# Altium schematic symbol library Schlib_JAE Electronics.SchLib: 2 symbols
Pins are listed as number, name and electrical type; pins without a type are passive.

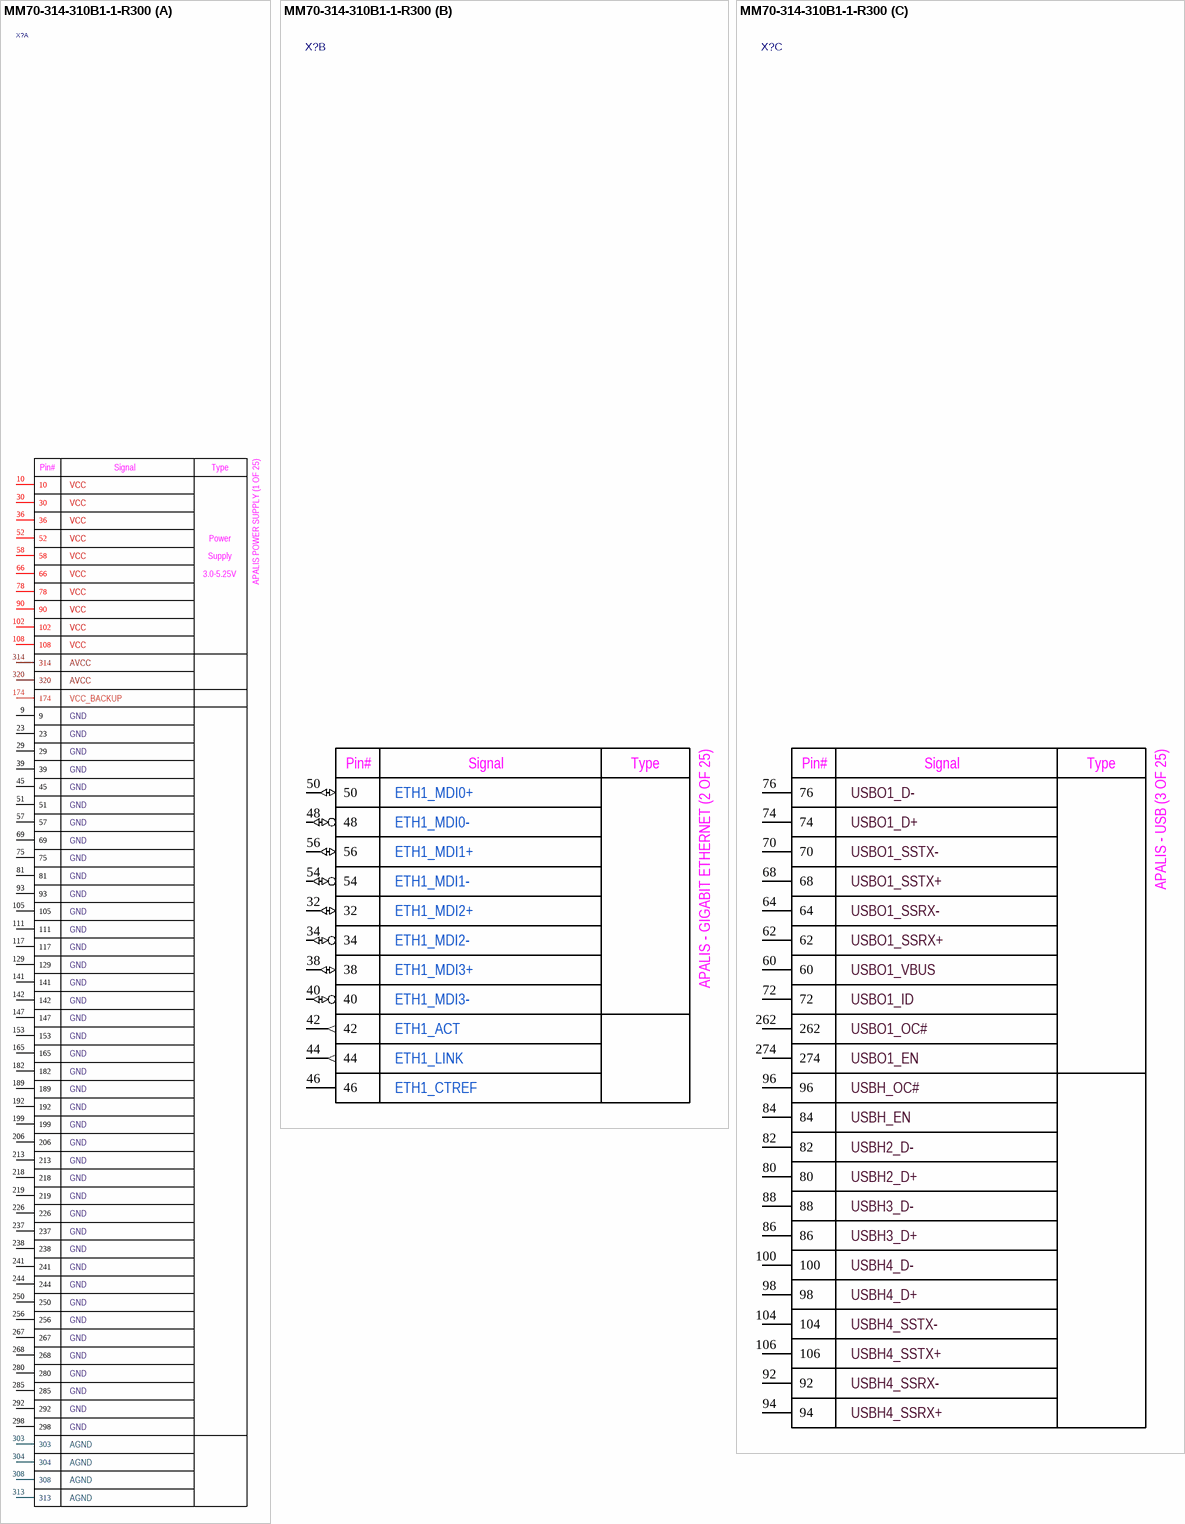
[diagram p0: symbol MM70-314-310B1-1-R300]

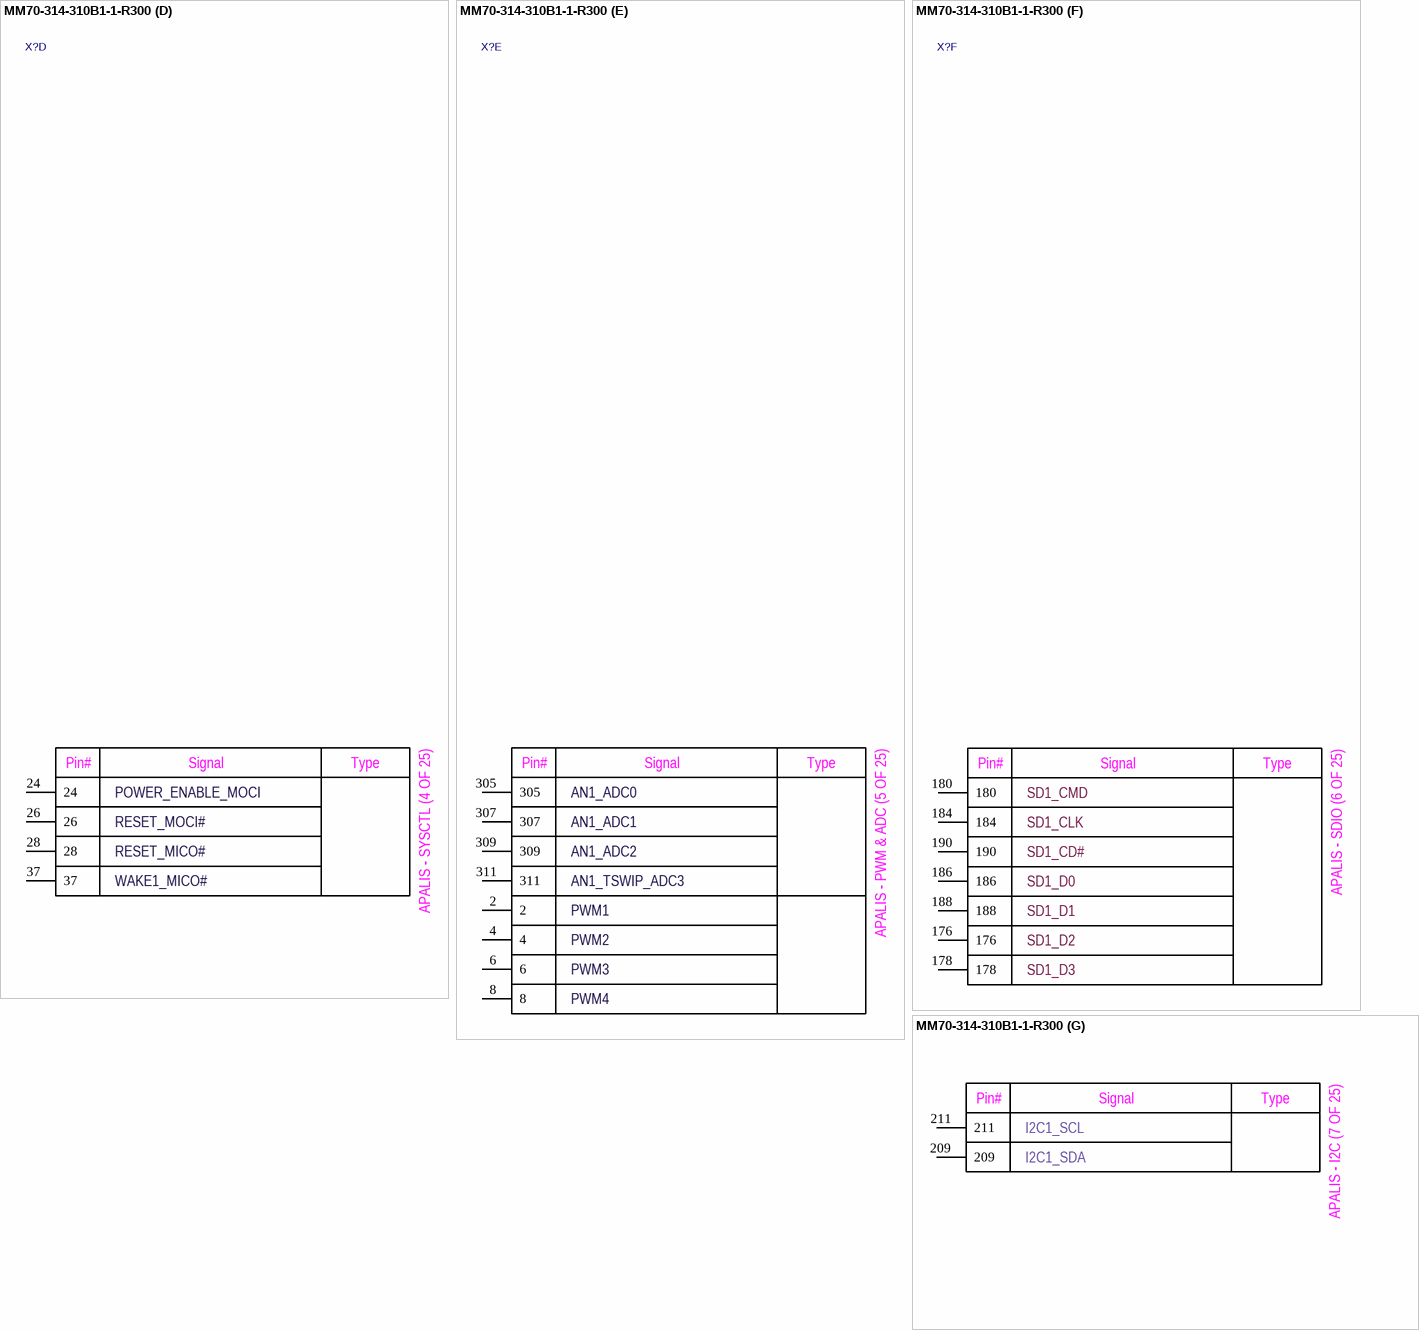
[diagram p1: symbol MM70-314-310B1-1-R300]

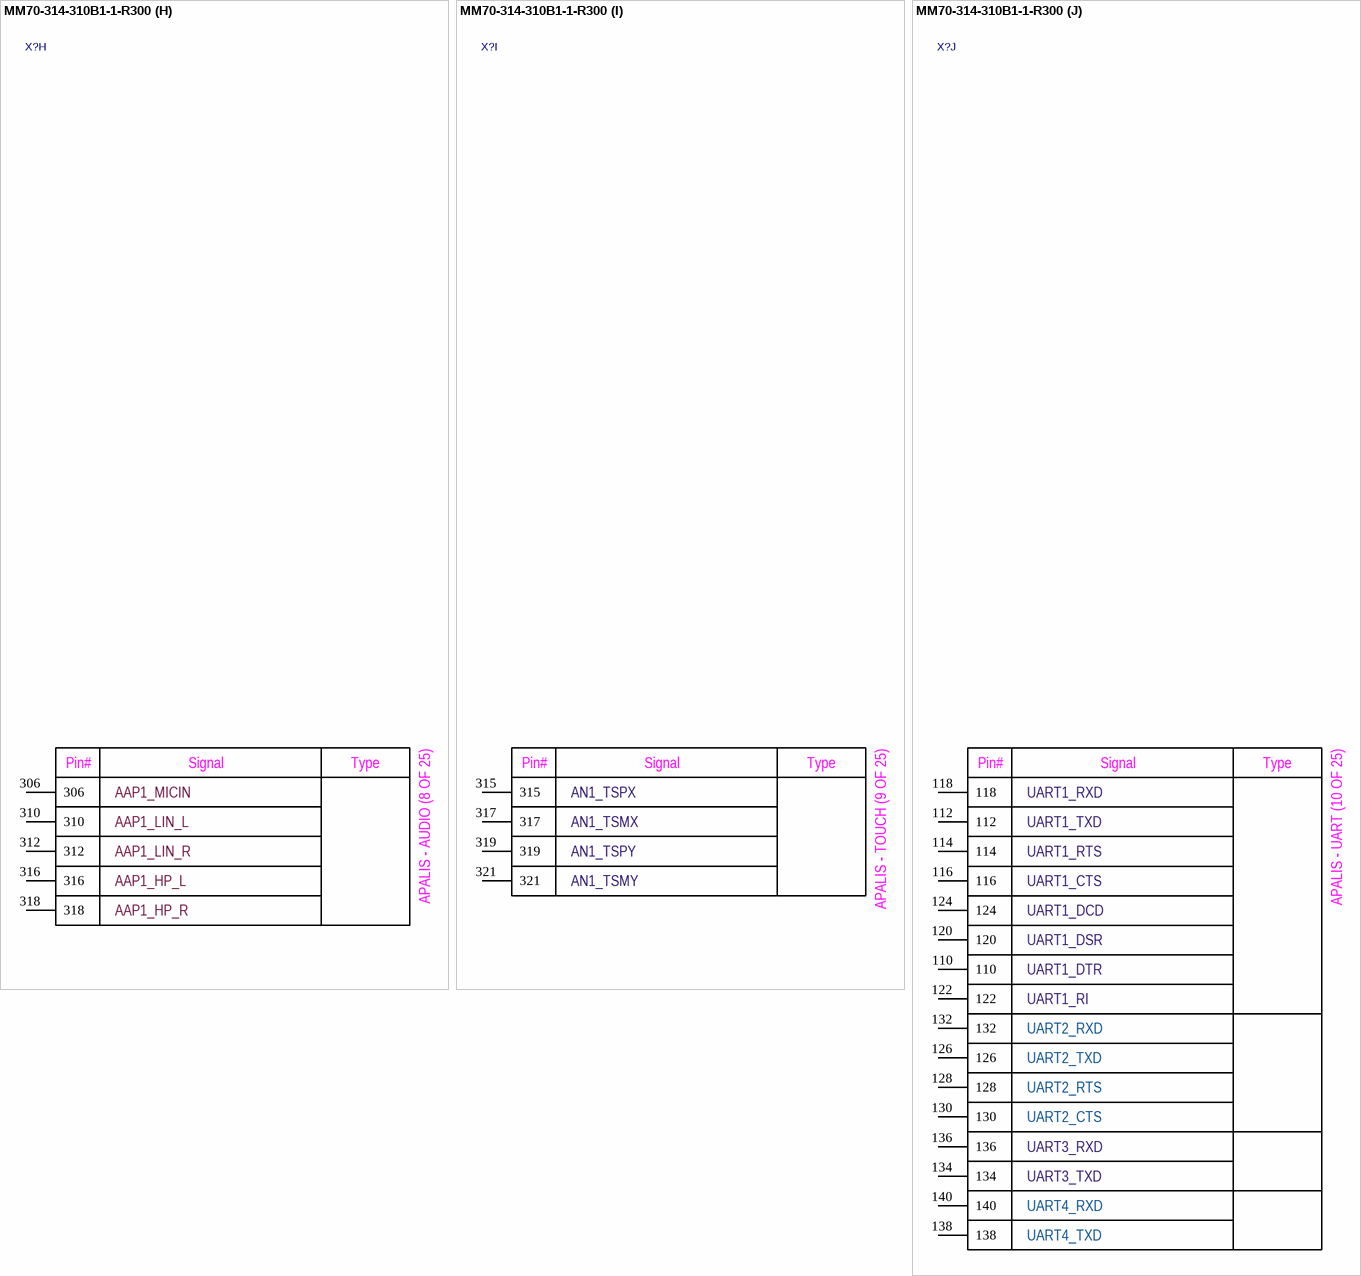
[diagram p2: symbol MM70-314-310B1-1-R300]

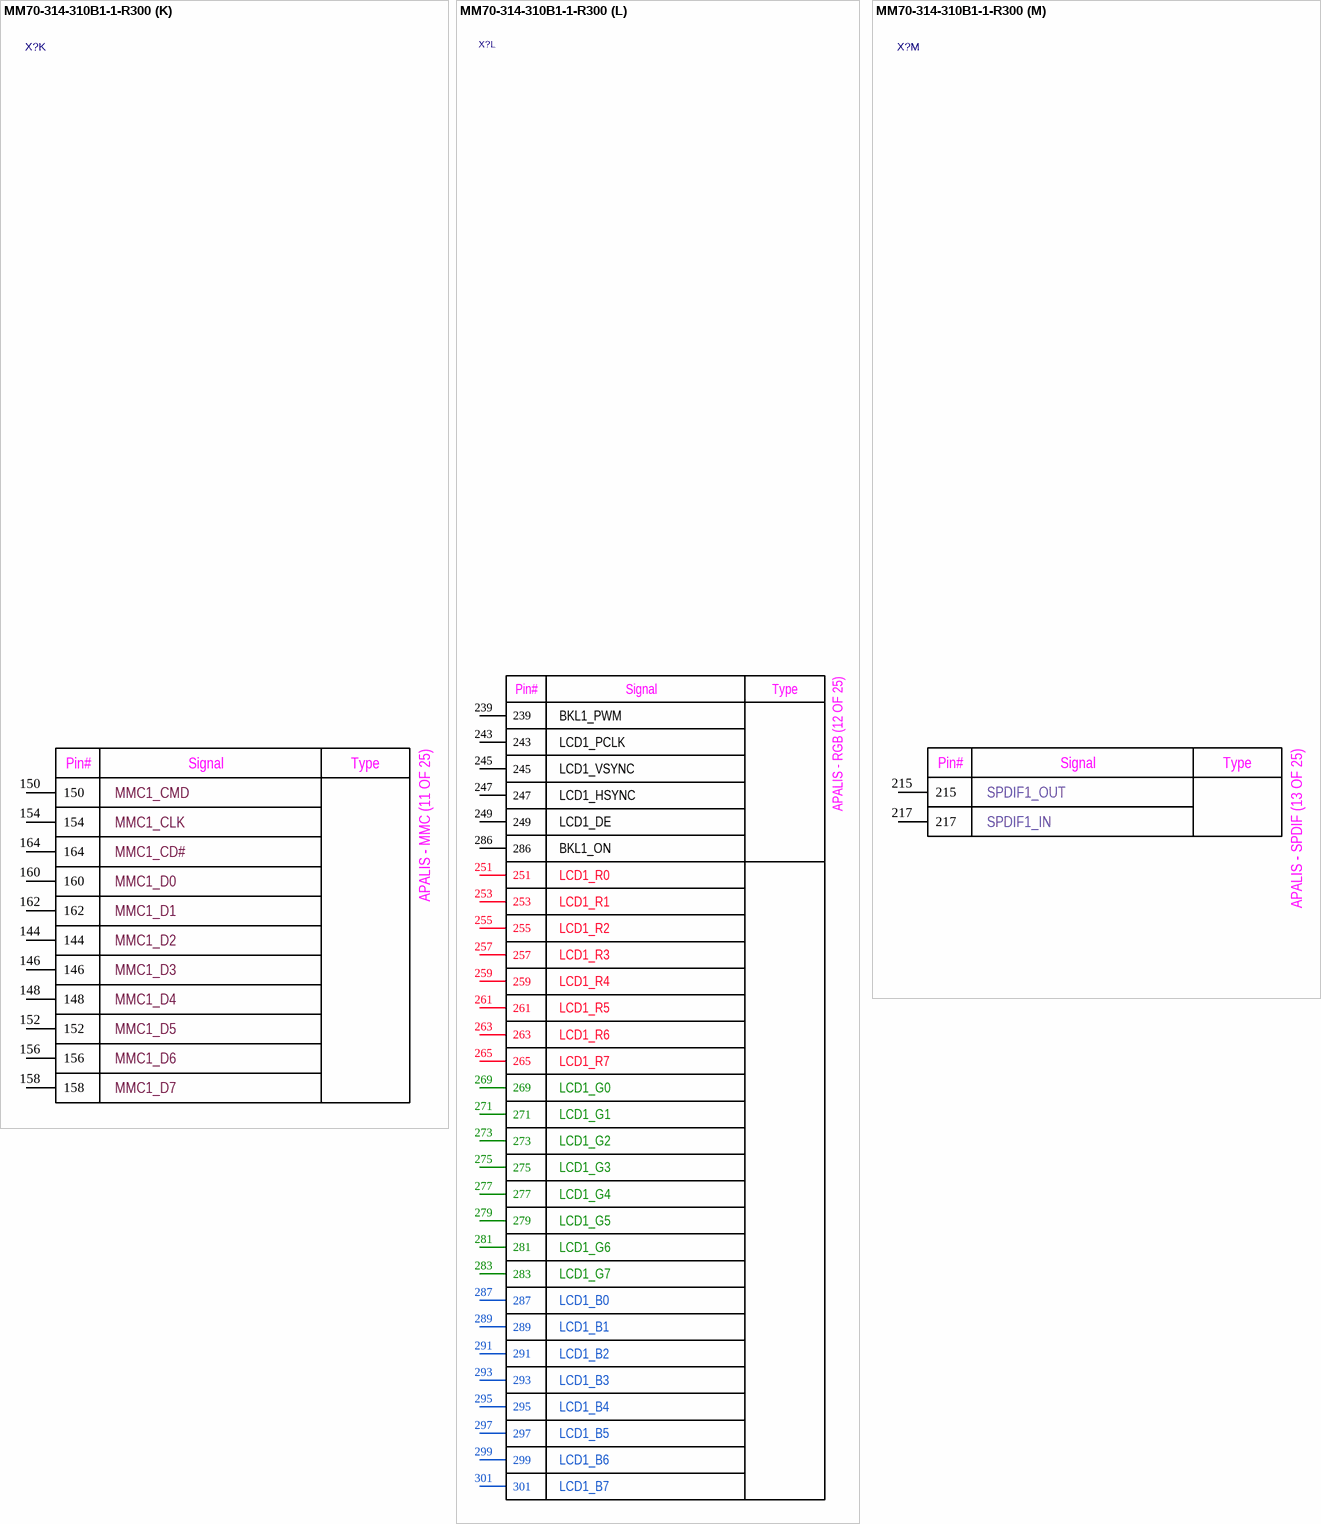
[diagram p3: symbol MM70-314-310B1-1-R300]

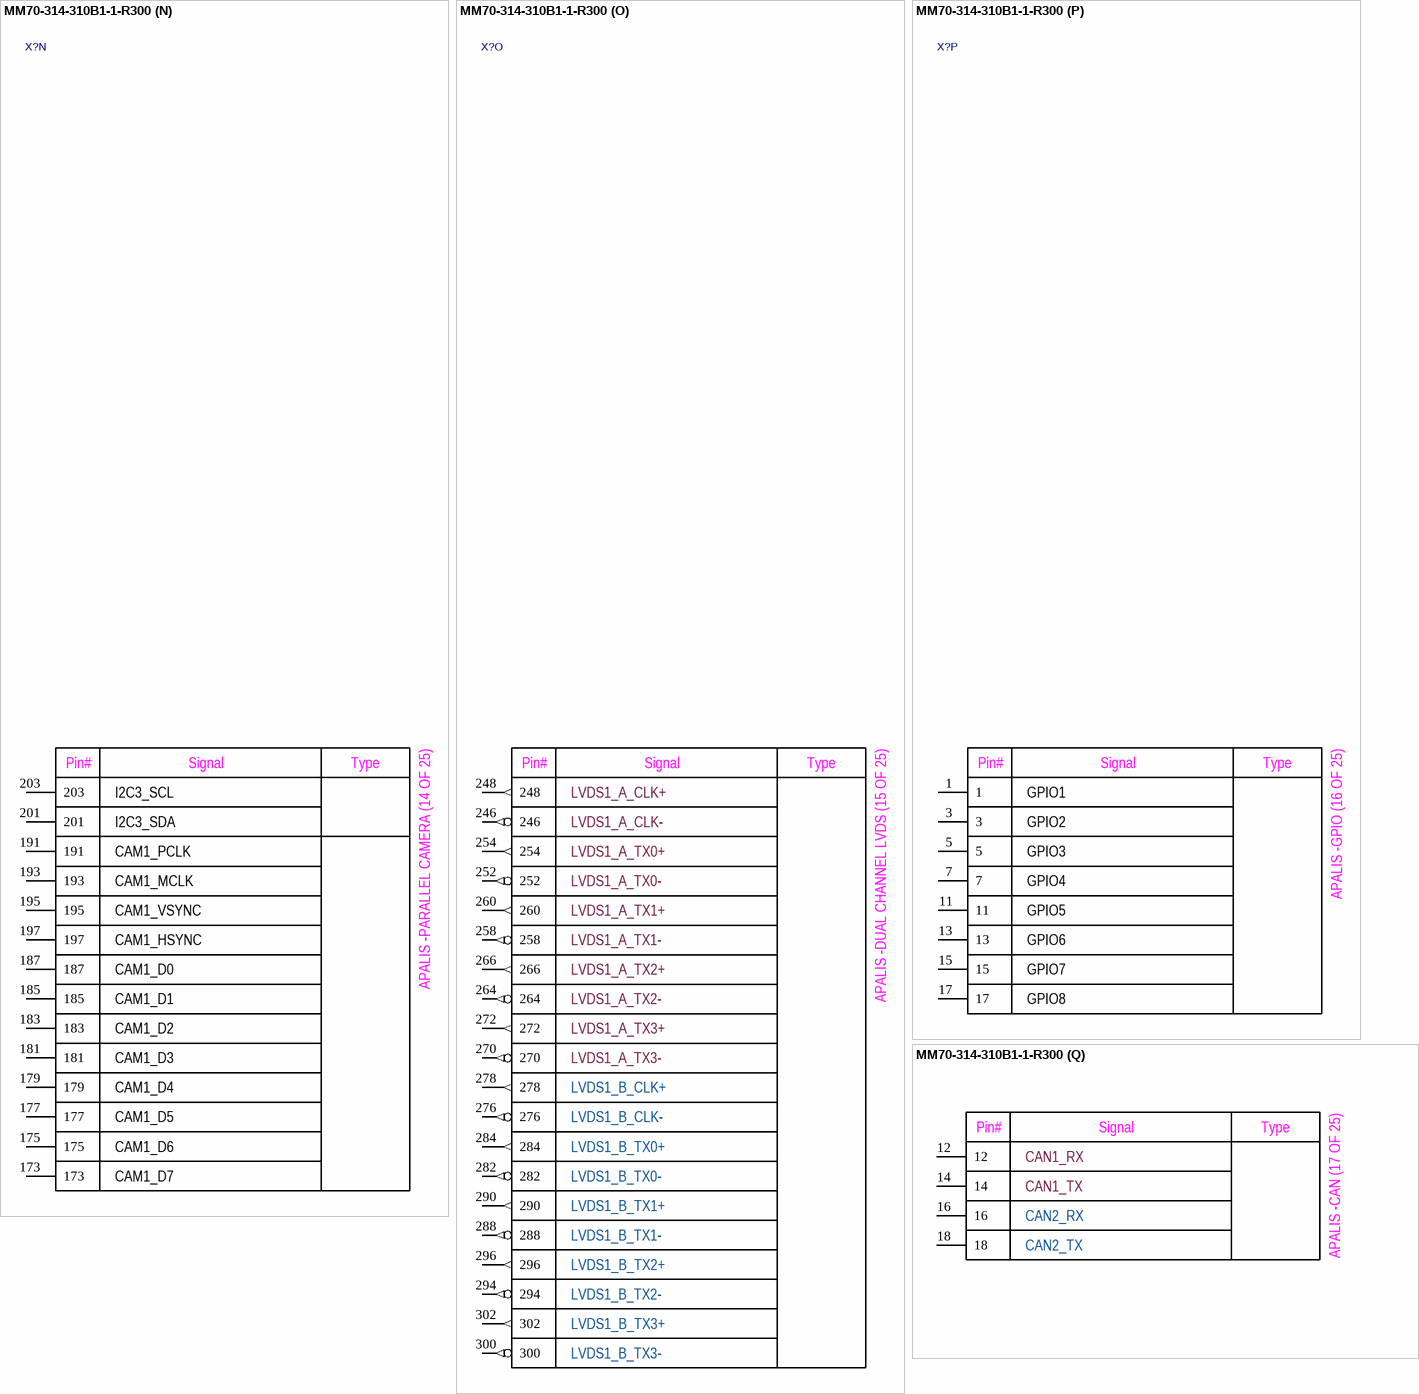
[diagram p4: symbol MM70-314-310B1-1-R300]

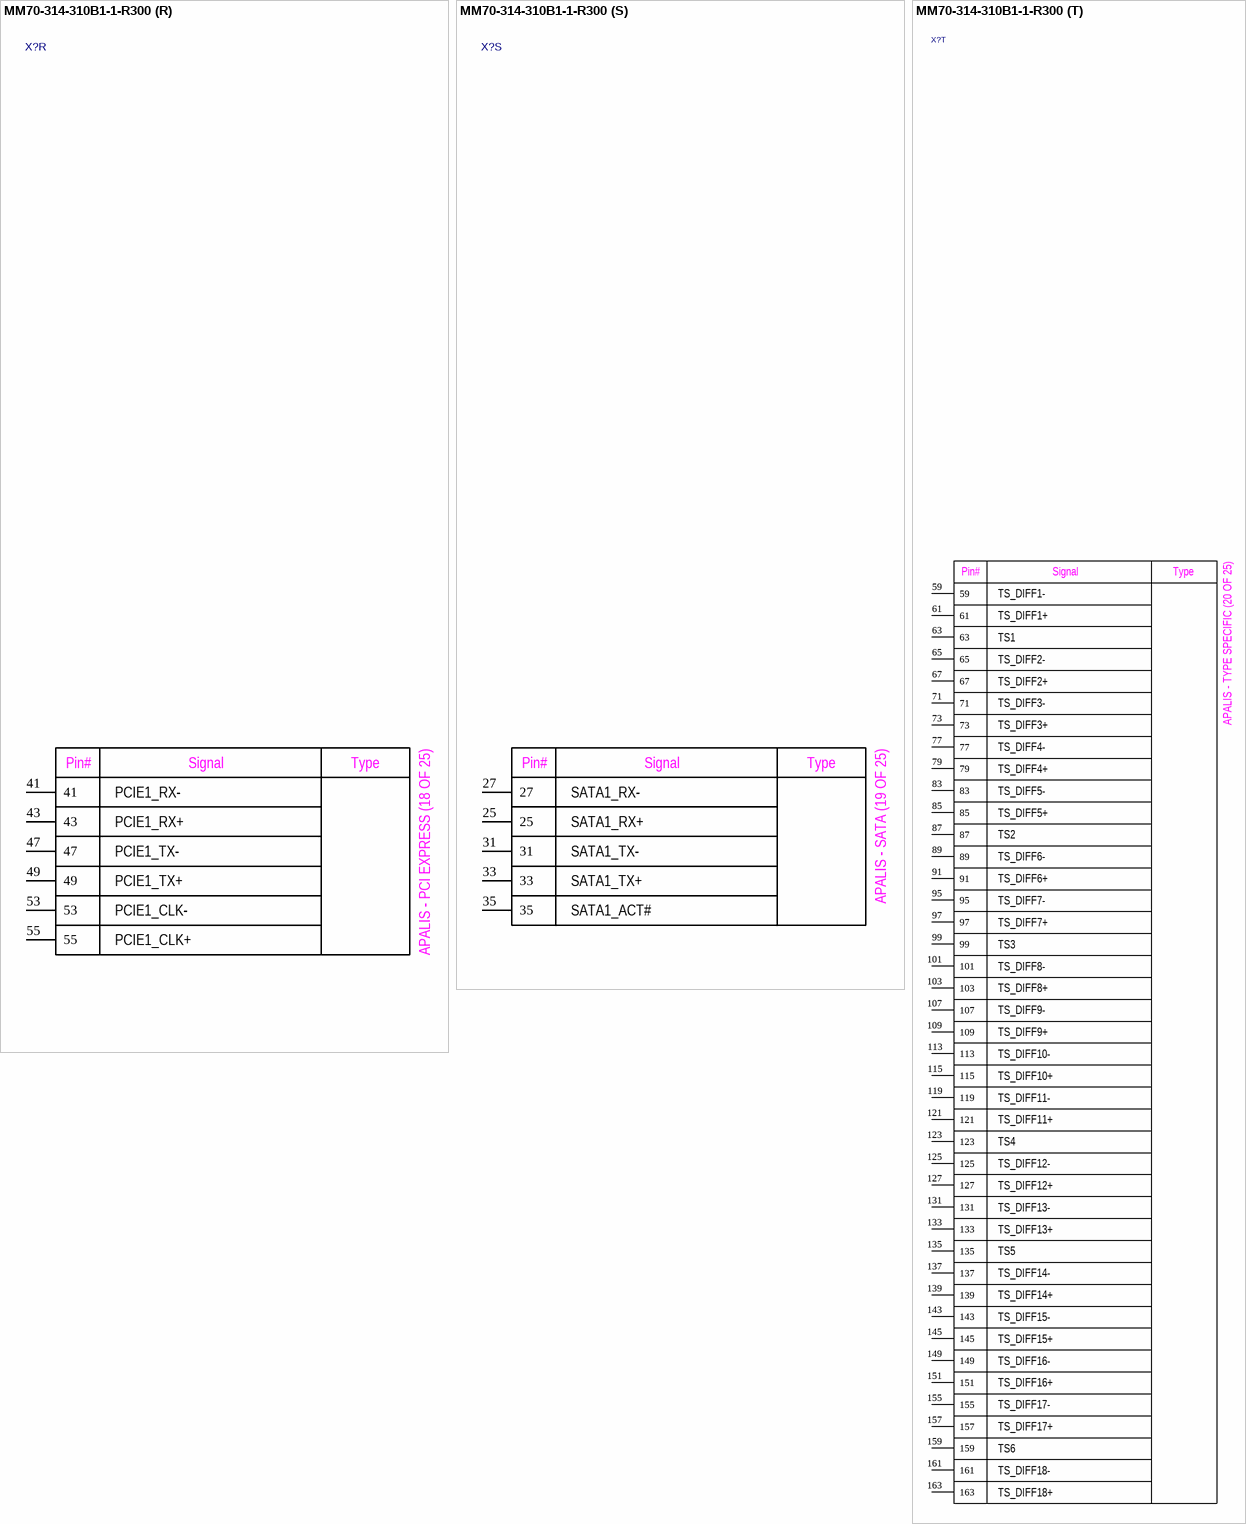
[diagram p5: symbol MM70-314-310B1-1-R300]

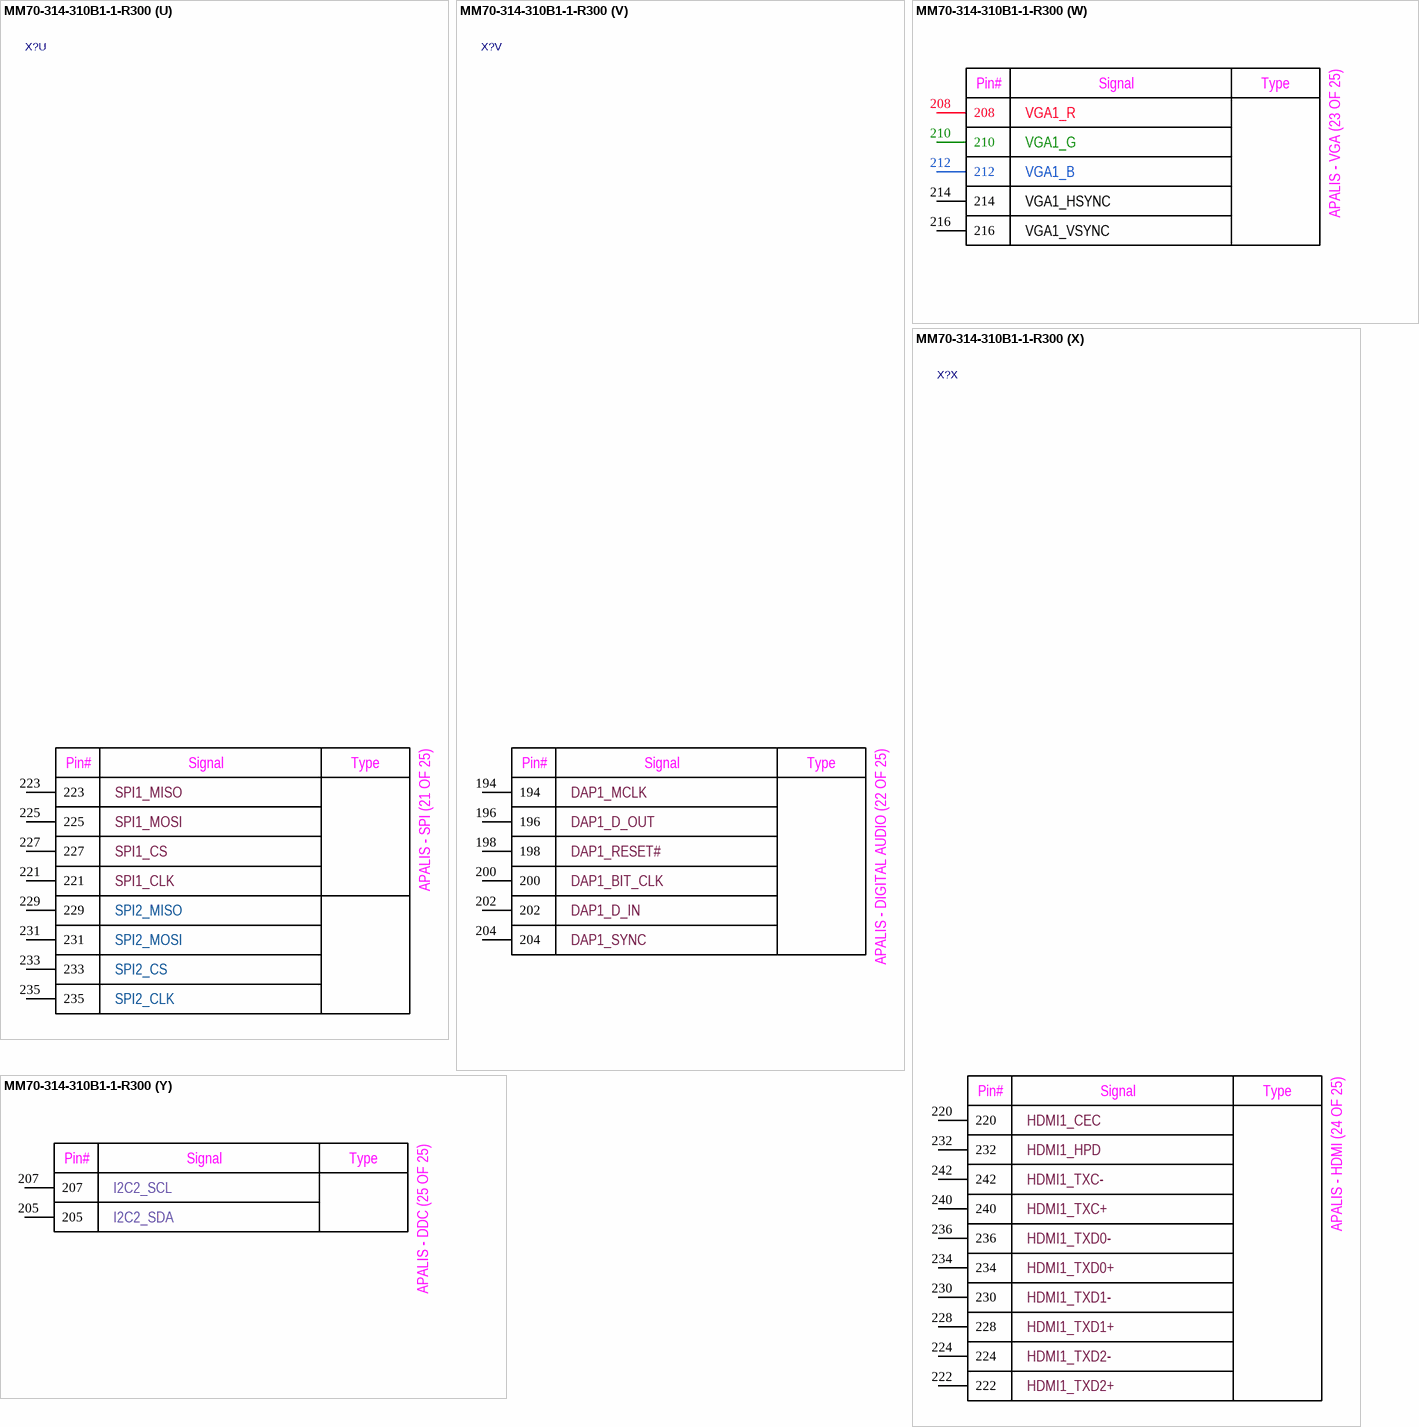
[diagram p6: symbol MM70-314-310B1-1-R300]

## MM70-314-310B1-1-R300
designator X?  (value not drawn)
MXM3 Connector for processing unit Apalis; Manufacturer: JAE Electronics; Part Number: MM70-314-310B1-1-R300
footprint MM70-314-310B1-1-R300 (MXM 3.0 Connector)
part A pins: 9 (power), 10 (power), 23 (power), 29 (power), 30 (power), 36 (power), 39 (power), 45 (power), 51 (power), 52 (power), 57 (power), 58 (power), 66 (power), 69 (power), 75 (power), 78 (power), 81 (power), 90 (power), 93 (power), 102 (power), 105 (power), 108 (power), 111 (power), 117 (power), 129 (power), 141 (power), 142 (power), 147 (power), 153 (power), 165 (power), 174 (power), 182 (power), 189 (power), 192 (power), 199 (power), 206 (power), 213 (power), 218 (power), 219 (power), 226 (power), 237 (power), 238 (power), 241 (power), 244 (power), 250 (power), 256 (power), 267 (power), 268 (power), 280 (power), 285 (power), 292 (power), 298 (power), 303 (power), 304 (power), 308 (power), 313 (power), 314 (power), 320 (power)
part B pins: 32 (io), 34 (io), 38 (io), 40 (io), 42 (out), 44 (out), 46, 48 (io), 50 (io), 54 (io), 56 (io)
part C pins: 60, 62, 64, 68, 70, 72, 74, 76, 80, 82, 84, 86, 88, 92, 94, 96, 98, 100, 104, 106, 262, 274
part D pins: 24, 26, 28, 37
part E pins: 2, 4, 6, 8, 305, 307, 309, 311
part F pins: 176, 178, 180, 184, 186, 188, 190
part G pins: 209, 211
part H pins: 306, 310, 312, 316, 318
part I pins: 315, 317, 319, 321
part J pins: 110, 112, 114, 116, 118, 120, 122, 124, 126, 128, 130, 132, 134, 136, 138, 140
part K pins: 144, 146, 148, 150, 152, 154, 156, 158, 160, 162, 164
part L pins: 239, 243, 245, 247, 249, 251, 253, 255, 257, 259, 261, 263, 265, 269, 271, 273, 275, 277, 279, 281, 283, 286, 287, 289, 291, 293, 295, 297, 299, 301
part M pins: 215, 217
part N pins: 173, 175, 177, 179, 181, 183, 185, 187, 191, 193, 195, 197, 201, 203
part O pins: 246 (out), 248 (out), 252 (out), 254 (out), 258 (out), 260 (out), 264 (out), 266 (out), 270 (out), 272 (out), 276 (out), 278 (out), 282 (out), 284 (out), 288 (out), 290 (out), 294 (out), 296 (out), 300 (out), 302 (out)
part P pins: 1, 3, 5, 7, 11, 13, 15, 17
part Q pins: 12, 14, 16, 18
part R pins: 41, 43, 47, 49, 53, 55
part S pins: 25, 27, 31, 33, 35
part T pins: 59, 61, 63, 65, 67, 71, 73, 77, 79, 83, 85, 87, 89, 91, 95, 97, 99, 101, 103, 107, 109, 113, 115, 119, 121, 123, 125, 127, 131, 133, 135, 137, 139, 143, 145, 149, 151, 155, 157, 159, 161, 163
part U pins: 221, 223, 225, 227, 229, 231, 233, 235
part V pins: 194, 196, 198, 200, 202, 204
part W pins: 208, 210, 212, 214, 216
part X pins: 220, 222, 224, 228, 230, 232, 234, 236, 240, 242
part Y pins: 205, 207
part A text: APALIS POWER SUPPLY (1 OF 25); Pin#; Signal; Type; VCC; Power; Supply; 3.0-5.25V; AVCC; VCC_BACKUP; GND; AGND
part B text: APALIS - GIGABIT ETHERNET (2 OF 25); Pin#; Signal; Type; ETH1_MDI0+; ETH1_MDI0-; ETH1_MDI1+; ETH1_MDI1-; ETH1_MDI2+; ETH1_MDI2-; ETH1_MDI3+; ETH1_MDI3-; ETH1_ACT; ETH1_LINK; ETH1_CTREF
part C text: APALIS - USB (3 OF 25); Pin#; Signal; Type; USBO1_D-; USBO1_D+; USBO1_SSTX-; USBO1_SSTX+; USBO1_SSRX-; USBO1_SSRX+; USBO1_VBUS; USBO1_ID; USBO1_OC#; USBO1_EN; USBH_OC#; USBH_EN; USBH2_D-; USBH2_D+; USBH3_D-; USBH3_D+; USBH4_D-; USBH4_D+; USBH4_SSTX-; USBH4_SSTX+; USBH4_SSRX-; USBH4_SSRX+
part D text: APALIS - SYSCTL (4 OF 25); Pin#; Signal; Type; POWER_ENABLE_MOCI; RESET_MOCI#; RESET_MICO#; WAKE1_MICO#
part E text: APALIS - PWM & ADC (5 OF 25); Pin#; Signal; Type; AN1_ADC0; AN1_ADC1; AN1_ADC2; AN1_TSWIP_ADC3; PWM1; PWM2; PWM3; PWM4
part F text: APALIS - SDIO (6 OF 25); Pin#; Signal; Type; SD1_CMD; SD1_CLK; SD1_CD#; SD1_D0; SD1_D1; SD1_D2; SD1_D3
part G text: APALIS - I2C (7 OF 25); Pin#; Signal; Type; I2C1_SCL; I2C1_SDA
part H text: APALIS - AUDIO (8 OF 25); Pin#; Signal; Type; AAP1_MICIN; AAP1_LIN_L; AAP1_LIN_R; AAP1_HP_L; AAP1_HP_R
part I text: APALIS - TOUCH (9 OF 25); Pin#; Signal; Type; AN1_TSPX; AN1_TSMX; AN1_TSPY; AN1_TSMY
part J text: APALIS - UART (10 OF 25); Pin#; Signal; Type; UART1_RXD; UART1_TXD; UART1_RTS; UART1_CTS; UART1_DCD; UART1_DSR; UART1_DTR; UART1_RI; UART2_RXD; UART2_TXD; UART2_RTS; UART2_CTS; UART3_RXD; UART3_TXD; UART4_RXD; UART4_TXD
part K text: APALIS - MMC (11 OF 25); Pin#; Signal; Type; MMC1_CMD; MMC1_CLK; MMC1_CD#; MMC1_D0; MMC1_D1; MMC1_D2; MMC1_D3; MMC1_D4; MMC1_D5; MMC1_D6; MMC1_D7
part L text: APALIS - RGB (12 OF 25); Pin#; Signal; Type; BKL1_PWM; LCD1_PCLK; LCD1_VSYNC; LCD1_HSYNC; LCD1_DE; BKL1_ON; LCD1_R0; LCD1_R1; LCD1_R2; LCD1_R3; LCD1_R4; LCD1_R5; LCD1_R6; LCD1_R7; LCD1_G0; LCD1_G1; LCD1_G2; LCD1_G3; LCD1_G4; LCD1_G5; LCD1_G6; LCD1_G7; LCD1_B0; LCD1_B1; LCD1_B2; LCD1_B3; LCD1_B4; LCD1_B5; LCD1_B6; LCD1_B7
part M text: APALIS - SPDIF (13 OF 25); Pin#; Signal; Type; SPDIF1_OUT; SPDIF1_IN
part N text: APALIS -PARALLEL CAMERA (14 OF 25); Pin#; Signal; Type; I2C3_SCL; I2C3_SDA; CAM1_PCLK; CAM1_MCLK; CAM1_VSYNC; CAM1_HSYNC; CAM1_D0; CAM1_D1; CAM1_D2; CAM1_D3; CAM1_D4; CAM1_D5; CAM1_D6; CAM1_D7
part O text: APALIS -DUAL CHANNEL LVDS (15 OF 25); Pin#; Signal; Type; LVDS1_A_CLK+; LVDS1_A_CLK-; LVDS1_A_TX0+; LVDS1_A_TX0-; LVDS1_A_TX1+; LVDS1_A_TX1-; LVDS1_A_TX2+; LVDS1_A_TX2-; LVDS1_A_TX3+; LVDS1_A_TX3-; LVDS1_B_CLK+; LVDS1_B_CLK-; LVDS1_B_TX0+; LVDS1_B_TX0-; LVDS1_B_TX1+; LVDS1_B_TX1-; LVDS1_B_TX2+; LVDS1_B_TX2-; LVDS1_B_TX3+; LVDS1_B_TX3-
part P text: APALIS -GPIO (16 OF 25); Pin#; Signal; Type; GPIO1; GPIO2; GPIO3; GPIO4; GPIO5; GPIO6; GPIO7; GPIO8
part Q text: APALIS -CAN (17 OF 25); Pin#; Signal; Type; CAN1_RX; CAN1_TX; CAN2_RX; CAN2_TX
part R text: APALIS - PCI EXPRESS (18 OF 25); Pin#; Signal; Type; PCIE1_RX-; PCIE1_RX+; PCIE1_TX-; PCIE1_TX+; PCIE1_CLK-; PCIE1_CLK+
part S text: APALIS - SATA (19 OF 25); Pin#; Signal; Type; SATA1_RX-; SATA1_RX+; SATA1_TX-; SATA1_TX+; SATA1_ACT#
part T text: APALIS - TYPE SPECIFIC (20 OF 25); Pin#; Signal; Type; TS_DIFF1-; TS_DIFF1+; TS1; TS_DIFF2-; TS_DIFF2+; TS_DIFF3-; TS_DIFF3+; TS_DIFF4-; TS_DIFF4+; TS_DIFF5-; TS_DIFF5+; TS2; TS_DIFF6-; TS_DIFF6+; TS_DIFF7-; TS_DIFF7+; TS3; TS_DIFF8-; TS_DIFF8+; TS_DIFF9-; TS_DIFF9+; TS_DIFF10-; TS_DIFF10+; TS_DIFF11-; TS_DIFF11+; TS4; TS_DIFF12-; TS_DIFF12+; TS_DIFF13-; TS_DIFF13+; TS5; TS_DIFF14-; TS_DIFF14+; TS_DIFF15-; TS_DIFF15+; TS_DIFF16-; TS_DIFF16+; TS_DIFF17-; TS_DIFF17+; TS6; TS_DIFF18-; TS_DIFF18+
part U text: APALIS - SPI (21 OF 25); Pin#; Signal; Type; SPI1_MISO; SPI1_MOSI; SPI1_CS; SPI1_CLK; SPI2_MISO; SPI2_MOSI; SPI2_CS; SPI2_CLK
part V text: APALIS - DIGITAL AUDIO (22 OF 25); Pin#; Signal; Type; DAP1_MCLK; DAP1_D_OUT; DAP1_RESET#; DAP1_BIT_CLK; DAP1_D_IN; DAP1_SYNC
part W text: APALIS - VGA (23 OF 25); Pin#; Signal; Type; VGA1_R; VGA1_G; VGA1_B; VGA1_HSYNC; VGA1_VSYNC
part X text: APALIS - HDMI (24 OF 25); Pin#; Signal; Type; HDMI1_CEC; HDMI1_HPD; HDMI1_TXC-; HDMI1_TXC+; HDMI1_TXD0-; HDMI1_TXD0+; HDMI1_TXD1-; HDMI1_TXD1+; HDMI1_TXD2-; HDMI1_TXD2+
part Y text: APALIS - DDC (25 OF 25); Pin#; Signal; Type; I2C2_SCL; I2C2_SDA

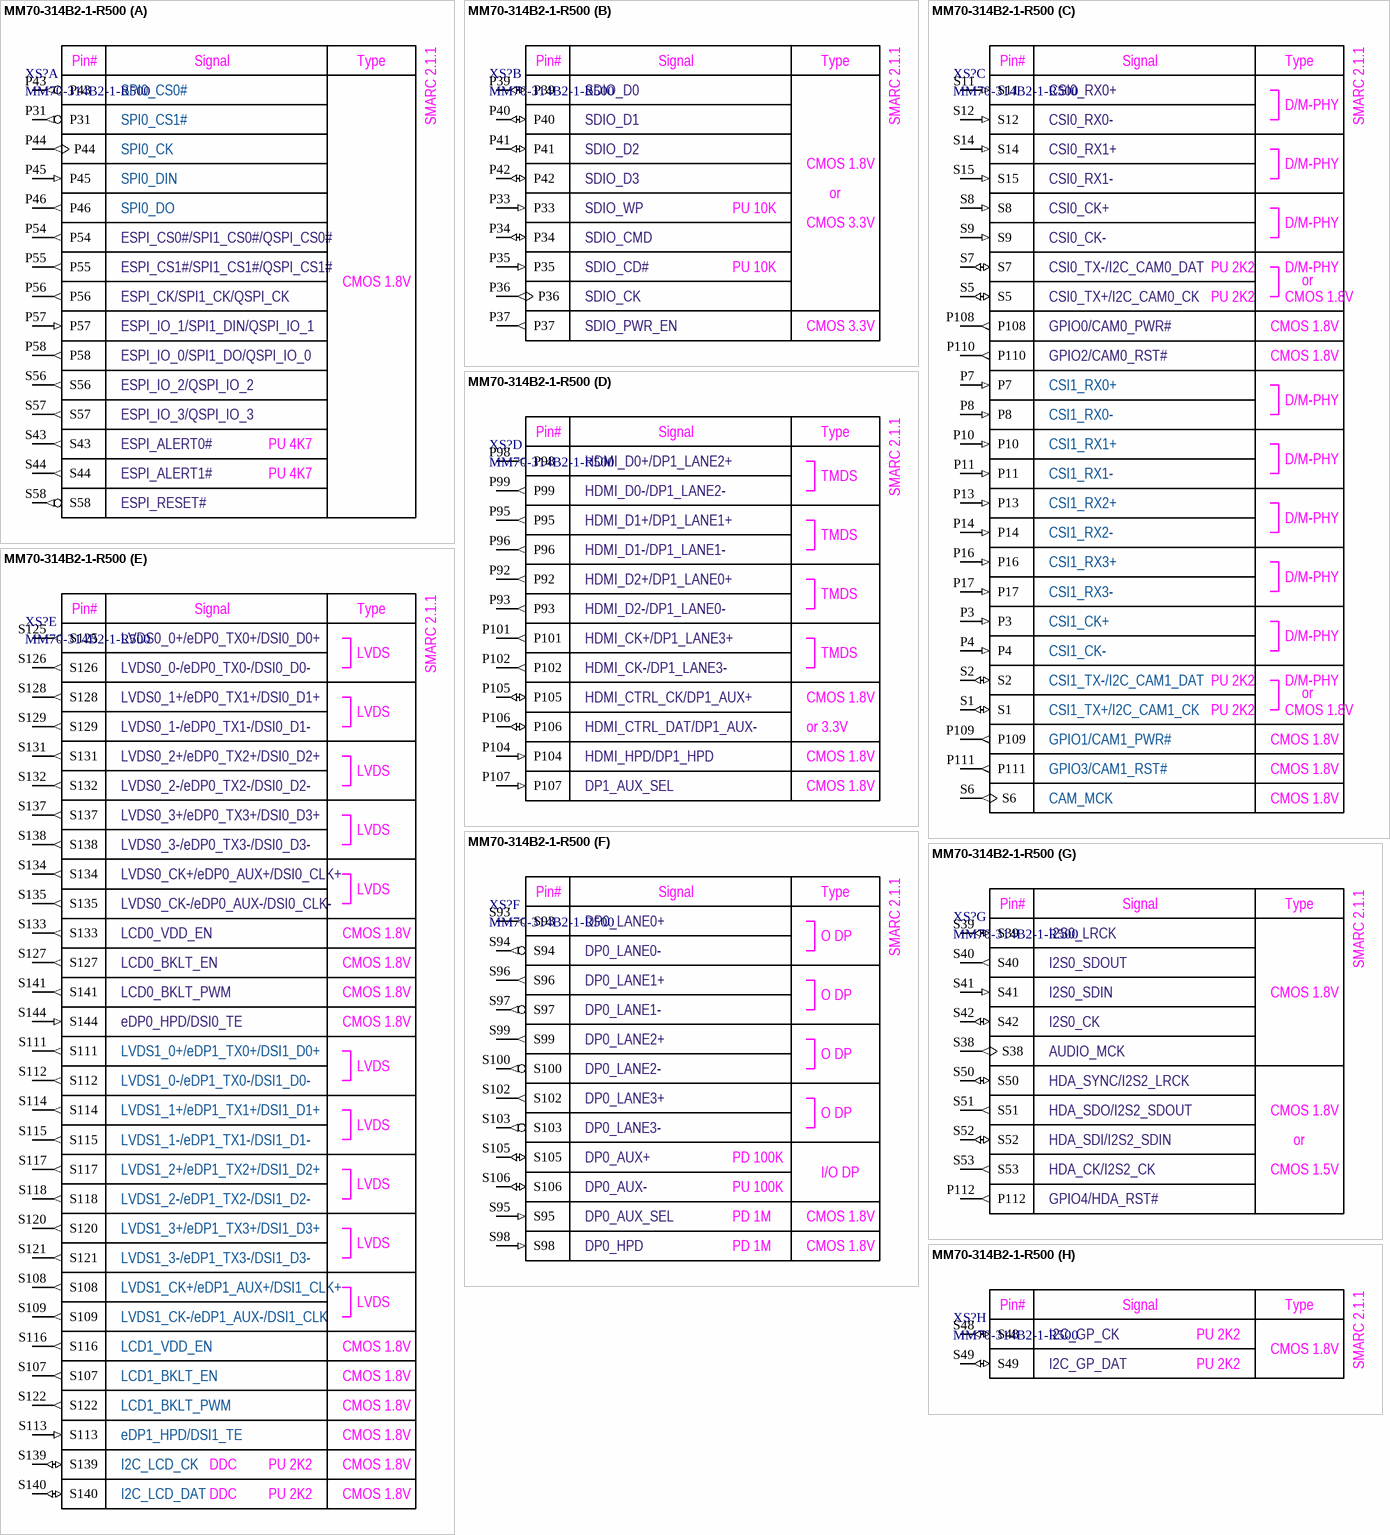
[diagram p7: symbol MM70-314B2-1-R500]

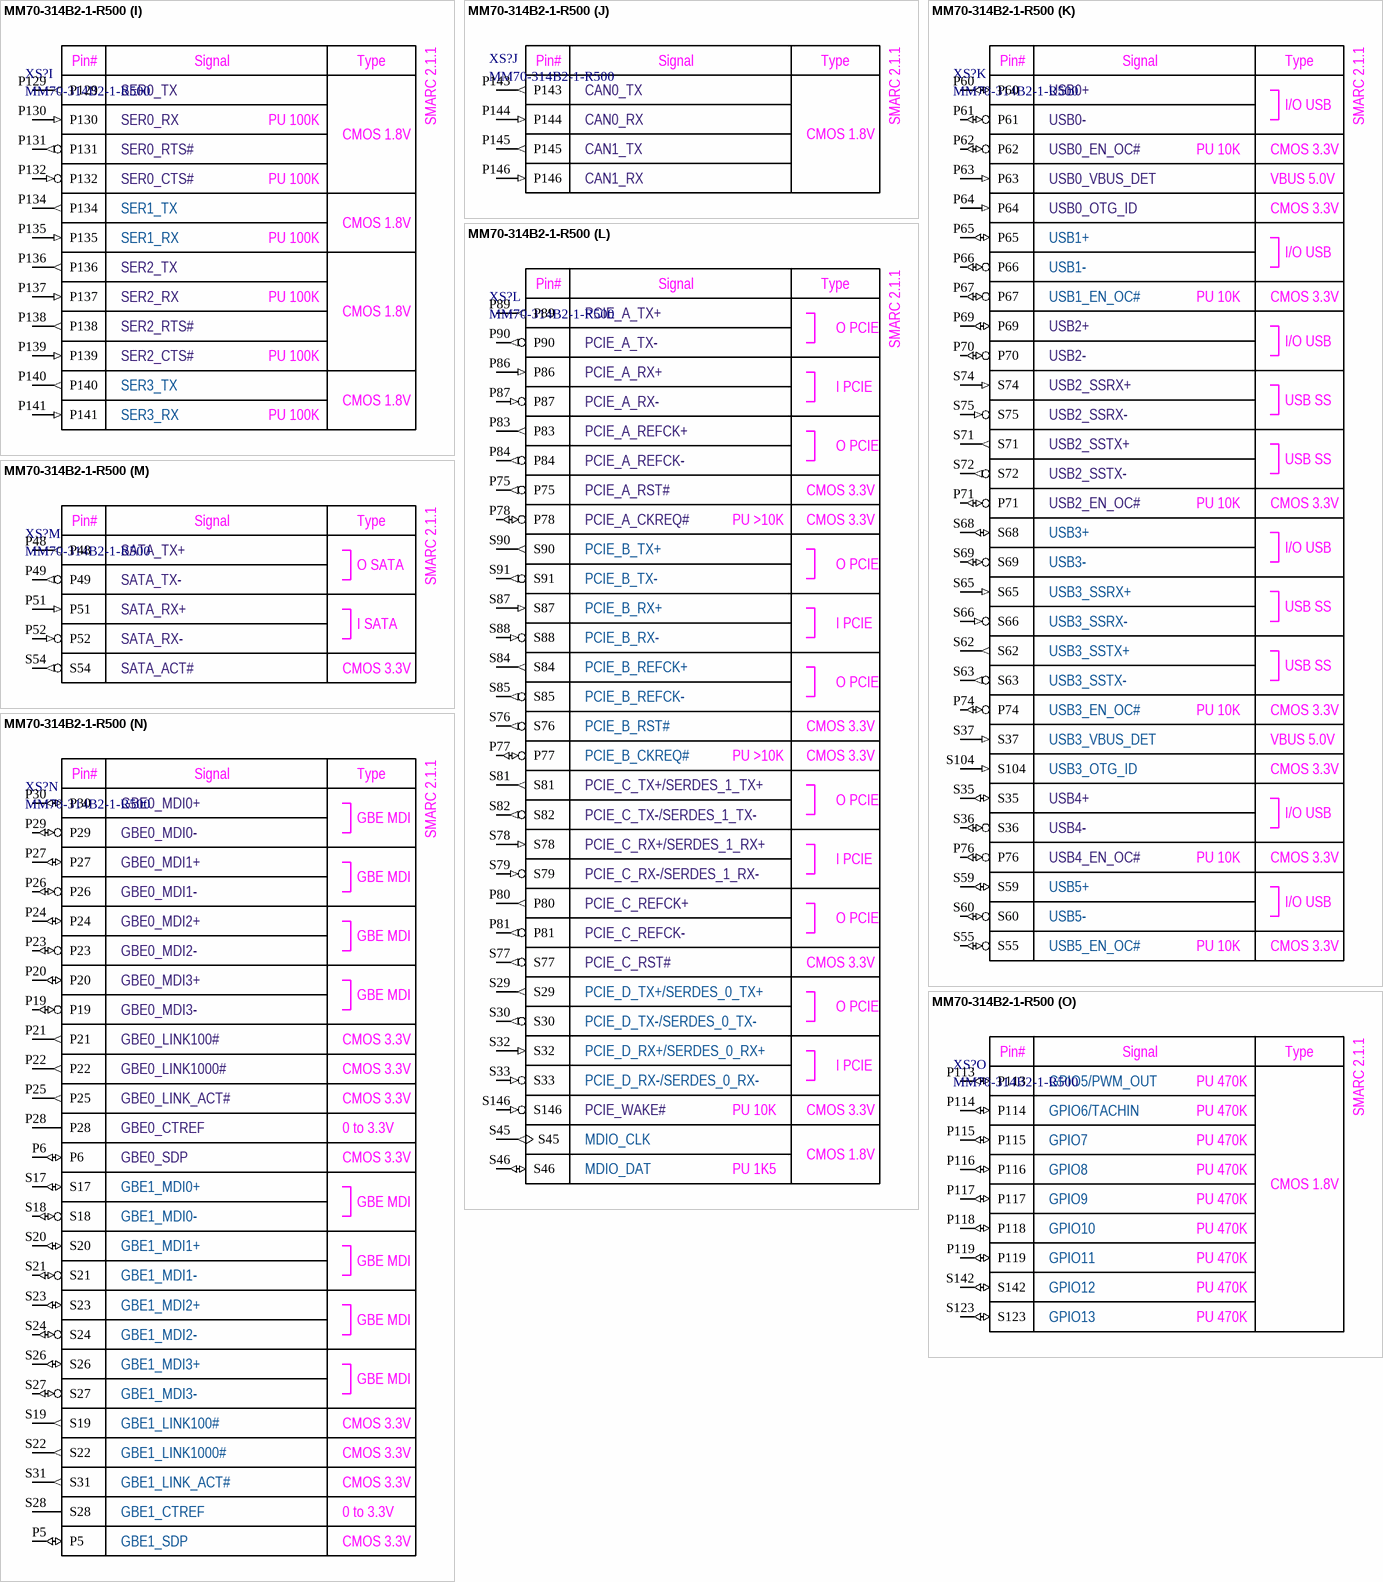
[diagram p8: symbol MM70-314B2-1-R500]

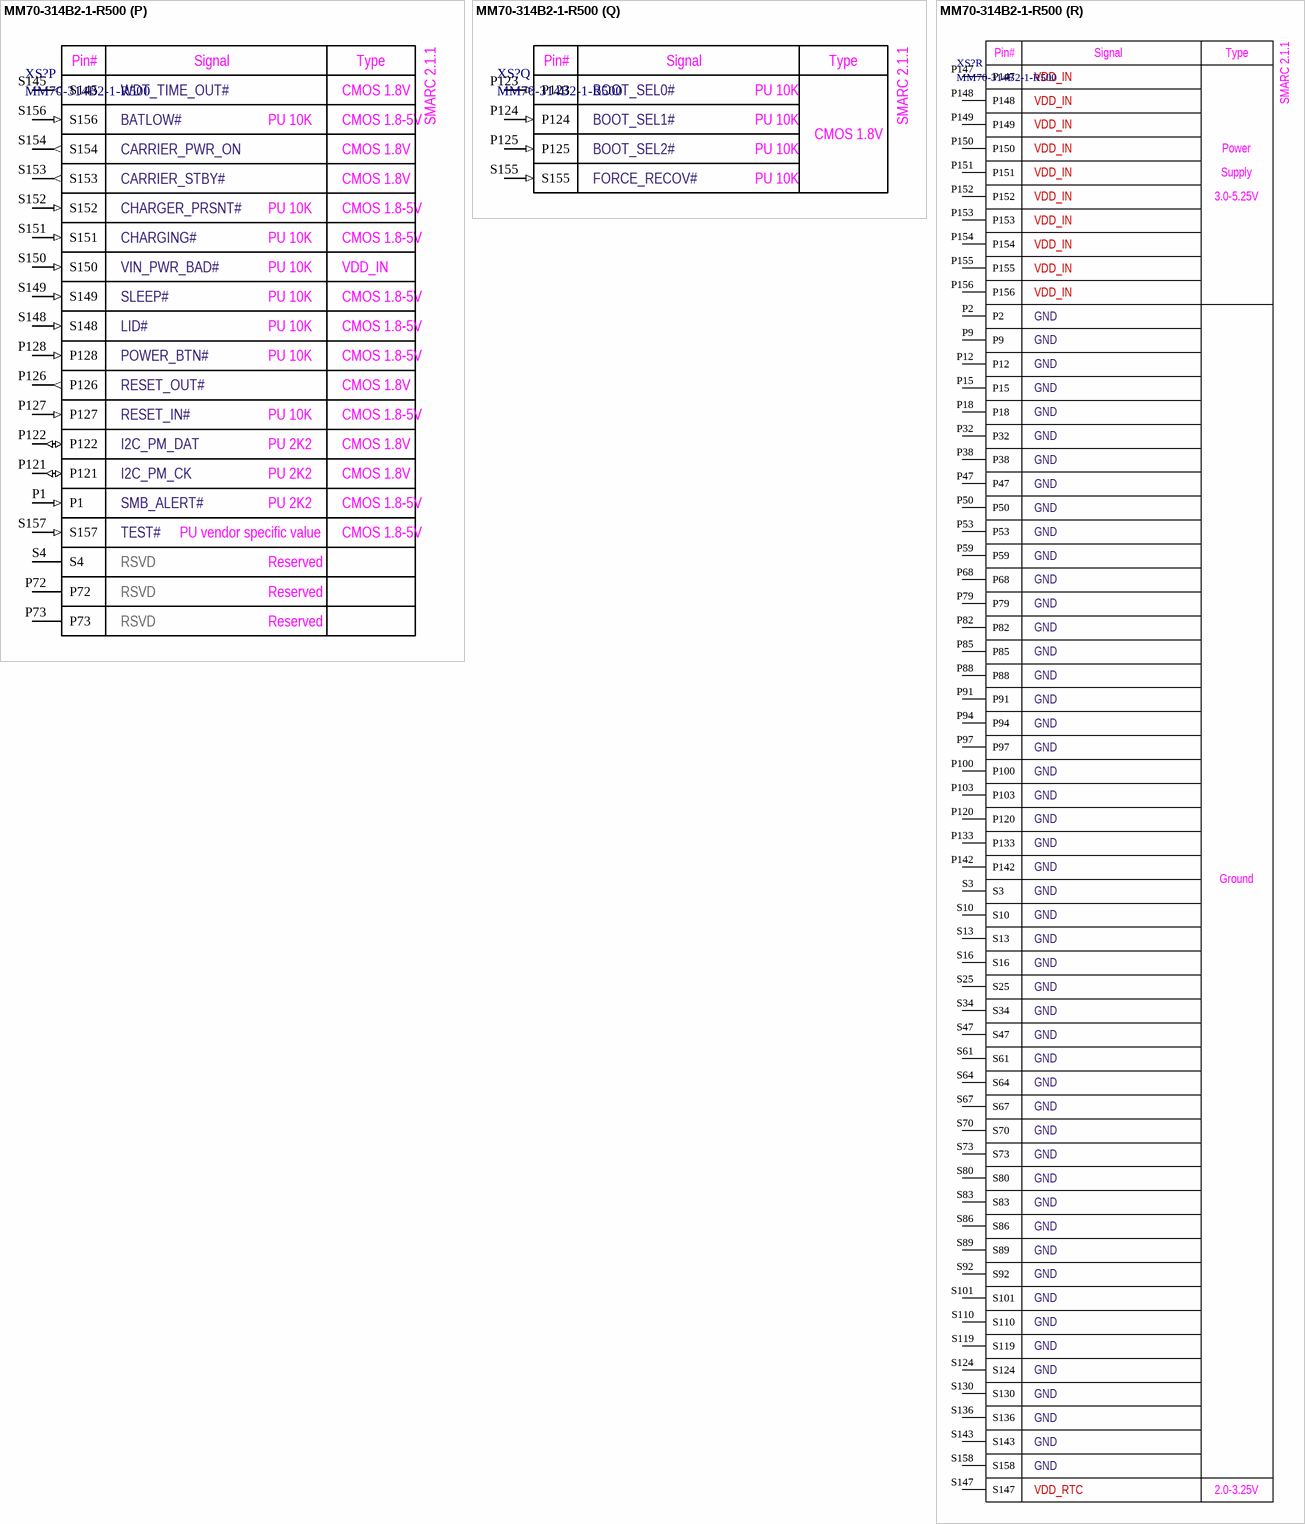
[diagram p9: symbol MM70-314B2-1-R500]

## MM70-314B2-1-R500
designator XS?
Manufacturer: JAE Electronics; Part Number: MM70-314B2-1-R500
footprint MM70-314B2-1-R500 (MXM3.0 Compatible Connector MM70 Series (SMARC 2.1))
part A pins: P31 (out), P43 (out), P44 (out), P45 (in), P46 (out), P54 (out), P55 (out), P56 (out), P57 (in), P58 (out), S43 (out), S44 (out), S56 (out), S57 (out), S58 (out)
part B pins: P33 (in), P34 (io), P35 (in), P36 (out), P37 (out), P39 (io), P40 (io), P41 (io), P42 (io)
part C pins: P3 (in), P4 (in), P7 (in), P8 (in), P10 (in), P11 (in), P13 (in), P14 (in), P16 (in), P17 (in), P108 (out), P109 (out), P110 (out), P111 (out), S1 (io), S2 (io), S5 (io), S6 (out), S7 (io), S8 (in), S9 (in), S11 (in), S12 (in), S14 (in), S15 (in)
part D pins: P92 (out), P93 (out), P95 (out), P96 (out), P98 (out), P99 (out), P101 (out), P102 (out), P104 (in), P105 (io), P106 (io), P107 (in)
part E pins: S107 (out), S108 (out), S109 (out), S111 (out), S112 (out), S113 (in), S114 (out), S115 (out), S116 (out), S117 (out), S118 (out), S120 (out), S121 (out), S122 (out), S125 (out), S126 (out), S127 (out), S128 (out), S129 (out), S131 (out), S132 (out), S133 (out), S134 (out), S135 (out), S137 (out), S138 (out), S139 (io), S140 (io), S141 (out), S144 (in)
part F pins: S93 (out), S94 (out), S95 (in), S96 (out), S97 (out), S98 (in), S99 (out), S100 (out), S102 (out), S103 (out), S105 (io), S106 (io)
part G pins: P112 (out), S38 (out), S39 (io), S40 (out), S41 (in), S42 (io), S50 (io), S51 (out), S52 (io), S53 (out)
part H pins: S48 (io), S49 (io)
part I pins: P129 (out), P130 (in), P131 (out), P132 (in), P134 (out), P135 (in), P136 (out), P137 (in), P138 (out), P139 (in), P140 (out), P141 (in)
part J pins: P143 (out), P144 (in), P145 (out), P146 (in)
part K pins: P60 (io), P61 (io), P62 (io), P63 (in), P64 (in), P65 (io), P66 (io), P67 (io), P69 (io), P70 (io), P71 (io), P74 (io), P76 (io), S35 (io), S36 (io), S37 (in), S55 (io), S59 (io), S60 (io), S62 (out), S63 (out), S65 (in), S66 (in), S68 (io), S69 (io), S71 (out), S72 (out), S74 (in), S75 (in), S104 (in)
part L pins: P75 (out), P77 (io), P78 (io), P80 (out), P81 (out), P83 (out), P84 (out), P86 (in), P87 (in), P89 (out), P90 (out), S29 (out), S30 (out), S32 (in), S33 (in), S45 (out), S46 (io), S76 (out), S77 (out), S78 (in), S79 (in), S81 (out), S82 (out), S84 (out), S85 (out), S87 (in), S88 (in), S90 (out), S91 (out), S146 (in)
part M pins: P48 (out), P49 (out), P51 (in), P52 (in), S54 (out)
part N pins: P5 (io), P6 (io), P19 (io), P20 (io), P21 (out), P22 (out), P23 (io), P24 (io), P25 (out), P26 (io), P27 (io), P28, P29 (io), P30 (io), S17 (io), S18 (io), S19 (out), S20 (io), S21 (io), S22 (out), S23 (io), S24 (io), S26 (io), S27 (io), S28, S31 (out)
part O pins: P113 (io), P114 (io), P115 (io), P116 (io), P117 (io), P118 (io), P119 (io), S123 (io), S142 (io)
part P pins: P1 (in), P72 (hiz), P73 (hiz), P121 (io), P122 (io), P126 (out), P127 (in), P128 (in), S4 (hiz), S145 (out), S148 (in), S149 (in), S150 (in), S151 (in), S152 (in), S153 (out), S154 (out), S156 (in), S157 (in)
part Q pins: P123 (in), P124 (in), P125 (in), S155 (in)
part R pins: P2 (power), P9 (power), P12 (power), P15 (power), P18 (power), P32 (power), P38 (power), P47 (power), P50 (power), P53 (power), P59 (power), P68 (power), P79 (power), P82 (power), P85 (power), P88 (power), P91 (power), P94 (power), P97 (power), P100 (power), P103 (power), P120 (power), P133 (power), P142 (power), P147 (power), P148 (power), P149 (power), P150 (power), P151 (power), P152 (power), P153 (power), P154 (power), P155 (power), P156 (power), S3 (power), S10 (power), S13 (power), S16 (power), S25 (power), S34 (power), S47 (power), S61 (power), S64 (power), S67 (power), S70 (power), S73 (power), S80 (power), S83 (power), S86 (power), S89 (power), S92 (power), S101 (power), S110 (power), S119 (power), S124 (power), S130 (power), S136 (power), S143 (power), S147 (power), S158 (power)
part A text: SMARC 2.1.1; Pin#; Signal; Type; SPI0_CS0#; SPI0_CS1#; SPI0_CK; SPI0_DIN; SPI0_DO; ESPI_CS0#/SPI1_CS0#/QSPI_CS0#; ESPI_CS1#/SPI1_CS1#/QSPI_CS1#; CMOS 1.8V; ESPI_CK/SPI1_CK/QSPI_CK; ESPI_IO_1/SPI1_DIN/QSPI_IO_1; ESPI_IO_0/SPI1_DO/QSPI_IO_0; ESPI_IO_2/QSPI_IO_2; ESPI_IO_3/QSPI_IO_3; ESPI_ALERT0#; PU 4K7; ESPI_ALERT1#; ESPI_RESET#
part B text: SMARC 2.1.1; Pin#; Signal; Type; SDIO_D0; SDIO_D1; SDIO_D2; CMOS 1.8V; SDIO_D3; or; SDIO_WP; PU 10K; CMOS 3.3V; SDIO_CMD; SDIO_CD#; SDIO_CK; SDIO_PWR_EN
part C text: SMARC 2.1.1; Pin#; Signal; Type; CSI0_RX0+; D/M-PHY; CSI0_RX0-; CSI0_RX1+; CSI0_RX1-; CSI0_CK+; CSI0_CK-; CSI0_TX-/I2C_CAM0_DAT; PU 2K2; or; CSI0_TX+/I2C_CAM0_CK; CMOS 1.8V; GPIO0/CAM0_PWR#; GPIO2/CAM0_RST#; CSI1_RX0+; CSI1_RX0-; CSI1_RX1+; CSI1_RX1-; CSI1_RX2+; CSI1_RX2-; CSI1_RX3+; CSI1_RX3-; CSI1_CK+; CSI1_CK-; CSI1_TX-/I2C_CAM1_DAT; CSI1_TX+/I2C_CAM1_CK; GPIO1/CAM1_PWR#; GPIO3/CAM1_RST#; CAM_MCK
part D text: SMARC 2.1.1; Pin#; Signal; Type; HDMI_D0+/DP1_LANE2+; TMDS; HDMI_D0-/DP1_LANE2-; HDMI_D1+/DP1_LANE1+; HDMI_D1-/DP1_LANE1-; HDMI_D2+/DP1_LANE0+; HDMI_D2-/DP1_LANE0-; HDMI_CK+/DP1_LANE3+; HDMI_CK-/DP1_LANE3-; HDMI_CTRL_CK/DP1_AUX+; CMOS 1.8V; HDMI_CTRL_DAT/DP1_AUX-; or 3.3V; HDMI_HPD/DP1_HPD; DP1_AUX_SEL
part E text: SMARC 2.1.1; Pin#; Signal; Type; LVDS0_0+/eDP0_TX0+/DSI0_D0+; LVDS; LVDS0_0-/eDP0_TX0-/DSI0_D0-; LVDS0_1+/eDP0_TX1+/DSI0_D1+; LVDS0_1-/eDP0_TX1-/DSI0_D1-; LVDS0_2+/eDP0_TX2+/DSI0_D2+; LVDS0_2-/eDP0_TX2-/DSI0_D2-; LVDS0_3+/eDP0_TX3+/DSI0_D3+; LVDS0_3-/eDP0_TX3-/DSI0_D3-; LVDS0_CK+/eDP0_AUX+/DSI0_CLK+; LVDS0_CK-/eDP0_AUX-/DSI0_CLK-; LCD0_VDD_EN; CMOS 1.8V; LCD0_BKLT_EN; LCD0_BKLT_PWM; eDP0_HPD/DSI0_TE; LVDS1_0+/eDP1_TX0+/DSI1_D0+; LVDS1_0-/eDP1_TX0-/DSI1_D0-; LVDS1_1+/eDP1_TX1+/DSI1_D1+; LVDS1_1-/eDP1_TX1-/DSI1_D1-; LVDS1_2+/eDP1_TX2+/DSI1_D2+; LVDS1_2-/eDP1_TX2-/DSI1_D2-; LVDS1_3+/eDP1_TX3+/DSI1_D3+; LVDS1_3-/eDP1_TX3-/DSI1_D3-; LVDS1_CK+/eDP1_AUX+/DSI1_CLK+; LVDS1_CK-/eDP1_AUX-/DSI1_CLK; LCD1_VDD_EN; LCD1_BKLT_EN; LCD1_BKLT_PWM; eDP1_HPD/DSI1_TE; I2C_LCD_CK; DDC; PU 2K2; I2C_LCD_DAT
part F text: SMARC 2.1.1; Pin#; Signal; Type; DP0_LANE0+; O DP; DP0_LANE0-; DP0_LANE1+; DP0_LANE1-; DP0_LANE2+; DP0_LANE2-; DP0_LANE3+; DP0_LANE3-; DP0_AUX+; PD 100K; I/O DP; DP0_AUX-; PU 100K; DP0_AUX_SEL; PD 1M; CMOS 1.8V; DP0_HPD
part G text: SMARC 2.1.1; Pin#; Signal; Type; I2S0_LRCK; I2S0_SDOUT; I2S0_SDIN; CMOS 1.8V; I2S0_CK; AUDIO_MCK; HDA_SYNC/I2S2_LRCK; HDA_SDO/I2S2_SDOUT; HDA_SDI/I2S2_SDIN; or; HDA_CK/I2S2_CK; CMOS 1.5V; GPIO4/HDA_RST#
part H text: SMARC 2.1.1; Pin#; Signal; Type; I2C_GP_CK; PU 2K2; CMOS 1.8V; I2C_GP_DAT
part I text: SMARC 2.1.1; Pin#; Signal; Type; SER0_TX; SER0_RX; PU 100K; CMOS 1.8V; SER0_RTS#; SER0_CTS#; SER1_TX; SER1_RX; SER2_TX; SER2_RX; SER2_RTS#; SER2_CTS#; SER3_TX; SER3_RX
part J text: SMARC 2.1.1; Pin#; Signal; Type; CAN0_TX; CAN0_RX; CMOS 1.8V; CAN1_TX; CAN1_RX
part K text: SMARC 2.1.1; Pin#; Signal; Type; USB0+; I/O USB; USB0-; USB0_EN_OC#; PU 10K; CMOS 3.3V; USB0_VBUS_DET; VBUS 5.0V; USB0_OTG_ID; USB1+; USB1-; USB1_EN_OC#; USB2+; USB2-; USB2_SSRX+; USB SS; USB2_SSRX-; USB2_SSTX+; USB2_SSTX-; USB2_EN_OC#; USB3+; USB3-; USB3_SSRX+; USB3_SSRX-; USB3_SSTX+; USB3_SSTX-; USB3_EN_OC#; USB3_VBUS_DET; USB3_OTG_ID; USB4+; USB4-; USB4_EN_OC#; USB5+; USB5-; USB5_EN_OC#
part L text: SMARC 2.1.1; Pin#; Signal; Type; PCIE_A_TX+; O PCIE; PCIE_A_TX-; PCIE_A_RX+; I PCIE; PCIE_A_RX-; PCIE_A_REFCK+; PCIE_A_REFCK-; PCIE_A_RST#; CMOS 3.3V; PCIE_A_CKREQ#; PU >10K; PCIE_B_TX+; PCIE_B_TX-; PCIE_B_RX+; PCIE_B_RX-; PCIE_B_REFCK+; PCIE_B_REFCK-; PCIE_B_RST#; PCIE_B_CKREQ#; PCIE_C_TX+/SERDES_1_TX+; PCIE_C_TX-/SERDES_1_TX-; PCIE_C_RX+/SERDES_1_RX+; PCIE_C_RX-/SERDES_1_RX-; PCIE_C_REFCK+; PCIE_C_REFCK-; PCIE_C_RST#; PCIE_D_TX+/SERDES_0_TX+; PCIE_D_TX-/SERDES_0_TX-; PCIE_D_RX+/SERDES_0_RX+; PCIE_D_RX-/SERDES_0_RX-; PCIE_WAKE#; PU 10K; MDIO_CLK; CMOS 1.8V; MDIO_DAT; PU 1K5
part M text: SMARC 2.1.1; Pin#; Signal; Type; SATA_TX+; O SATA; SATA_TX-; SATA_RX+; I SATA; SATA_RX-; SATA_ACT#; CMOS 3.3V
part N text: SMARC 2.1.1; Pin#; Signal; Type; GBE0_MDI0+; GBE MDI; GBE0_MDI0-; GBE0_MDI1+; GBE0_MDI1-; GBE0_MDI2+; GBE0_MDI2-; GBE0_MDI3+; GBE0_MDI3-; GBE0_LINK100#; CMOS 3.3V; GBE0_LINK1000#; GBE0_LINK_ACT#; GBE0_CTREF; 0 to 3.3V; GBE0_SDP; GBE1_MDI0+; GBE1_MDI0-; GBE1_MDI1+; GBE1_MDI1-; GBE1_MDI2+; GBE1_MDI2-; GBE1_MDI3+; GBE1_MDI3-; GBE1_LINK100#; GBE1_LINK1000#; GBE1_LINK_ACT#; GBE1_CTREF; GBE1_SDP
part O text: SMARC 2.1.1; Pin#; Signal; Type; GPIO5/PWM_OUT; PU 470K; GPIO6/TACHIN; GPIO7; GPIO8; CMOS 1.8V; GPIO9; GPIO10; GPIO11; GPIO12; GPIO13
part P text: SMARC 2.1.1; Pin#; Signal; Type; WDT_TIME_OUT#; CMOS 1.8V; BATLOW#; PU 10K; CMOS 1.8-5V; CARRIER_PWR_ON; CARRIER_STBY#; CHARGER_PRSNT#; CHARGING#; VIN_PWR_BAD#; VDD_IN; SLEEP#; LID#; POWER_BTN#; RESET_OUT#; RESET_IN#; I2C_PM_DAT; PU 2K2; I2C_PM_CK; SMB_ALERT#; TEST#; PU vendor specific value; RSVD; Reserved
part Q text: SMARC 2.1.1; Pin#; Signal; Type; BOOT_SEL0#; PU 10K; BOOT_SEL1#; CMOS 1.8V; BOOT_SEL2#; FORCE_RECOV#
part R text: SMARC 2.1.1; Pin#; Signal; Type; VDD_IN; Power; Supply; 3.0-5.25V; GND; Ground; VDD_RTC; 2.0-3.25V